# EAGLE library part LCD_RIBBON_16P (library jesse)
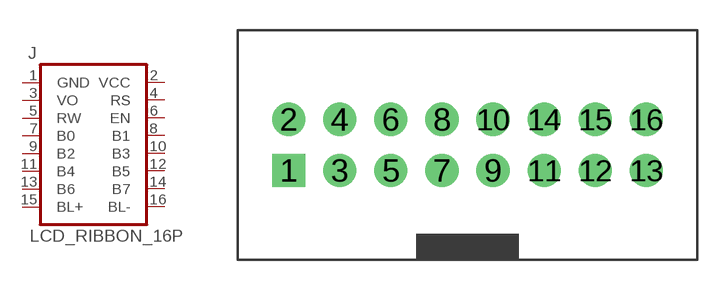
[diagram p7: symbol with the pads of CON_SHROUDED_16P; footprint CON_SHROUDED_16P]

Designator prefix J

## LCD_RIBBON_16P  [CON_SHROUDED_16P]
1  GND  pas
2  VCC  pas
3  VO  pas
4  RS  pas
5  RW  pas
6  EN  pas
7  B0  pas
8  B1  pas
9  B2  pas
10  B3  pas
11  B4  pas
12  B5  pas
13  B6  pas
14  B7  pas
15  BL+  pas
16  BL-  pas

## Footprint CON_SHROUDED_16P (pad centres in mm)
drill 1.1 square: 1 -8.89,-1.27
drill 1.1: 2 -8.89,1.27; 3 -6.35,-1.27; 4 -6.35,1.27; 5 -3.81,-1.27; 6 -3.81,1.27; 7 -1.27,-1.27; 8 -1.27,1.27; 9 1.27,-1.27; 10 1.27,1.27; 11 3.81,-1.27; 12 6.35,-1.27; 13 8.89,-1.27; 14 3.81,1.27; 15 6.35,1.27; 16 8.89,1.27